# Altium schematic symbol library Molex Pico SPOX 2 POS RA.SchLib: 1 symbol
Pins are listed as number, name and electrical type; pins without a type are passive.

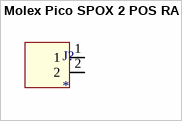
[diagram p0: symbol Molex Pico SPOX 2 POS RA]

## Molex Pico SPOX 2 POS RA
designator J?
CONN HEADER SMD R/A 2POS 1.5MM / Manufacturer PN: 0874380243
footprint Molex Pico SPOX 2 POS RA
pins: 1, 2